# Altium footprint library JST XH 2pin.PcbLib: 1 footprints
Each footprint in its own frame and in the unit in brackets; x right, y up, seen from the top. Pads: shape width x height; smd on the part's side, far side on the other; paste and mask are expansions set on the pad; w line width, h text height; cw(c..) or ccw(c..) is an arc to the next point about the centre after c.
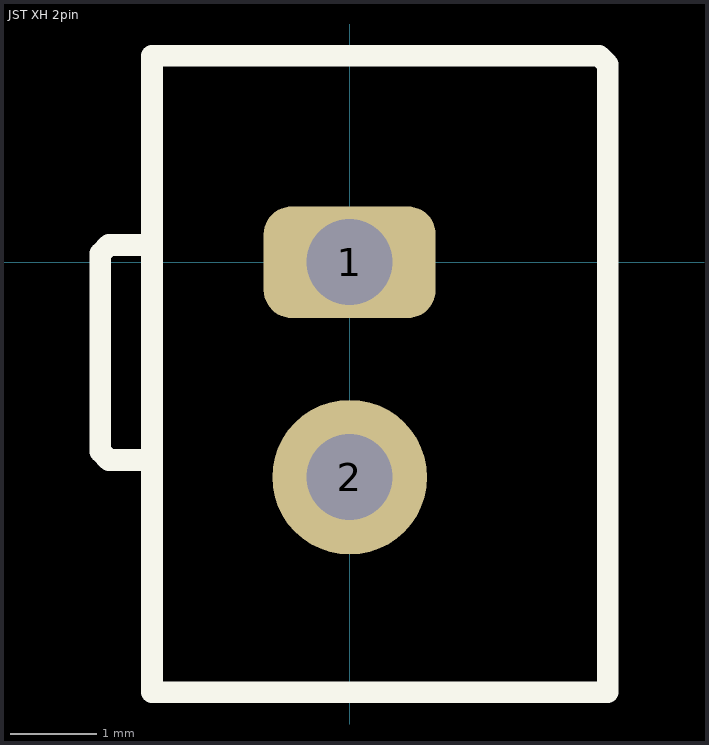
[diagram p0: the footprint, top view; thin cyan lines are the x and y axes]

## JST XH 2pin [mm]
pads (2):
  rrect50% 2x1.3 hole 1: 1(0,0)
  round 1.8 hole 1: 2(0,-2.5)
Top Overlay:
  lines w0.254: -2.3,-2.3 -2.8,-2.3 -2.9,-2.2 -2.9,0.1 -2.8,0.2 -2.3,0.2 ; -2.3,-5 -2.3,2.4 2.9,2.4 3,2.3 3,-5 -2.3,-5
3D body "JST - XH - Thru (V) - 2Pin - 2.54mm.stp": height 7.21, standoff -3, extent -2.489,-4.907 3.353,2.307